# Altium footprint library SON127P600X500X80-9N-D.PcbLib: 1 footprints
Each footprint in its own frame and in the unit in brackets; x right, y up, seen from the top. Pads: shape width x height; smd on the part's side, far side on the other; paste and mask are expansions set on the pad; w line width, h text height; cw(c..) or ccw(c..) is an arc to the next point about the centre after c.
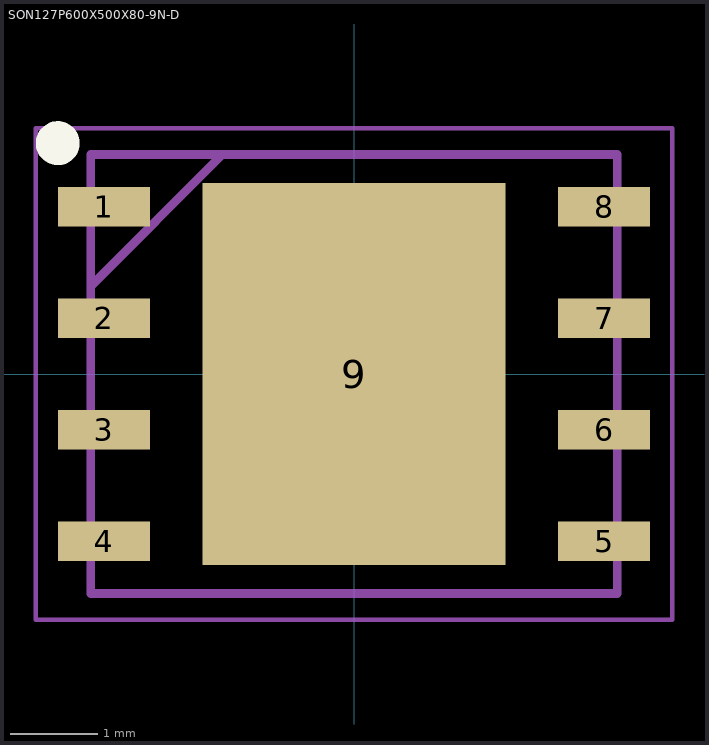
[diagram p0: the footprint, top view; thin cyan lines are the x and y axes]

## SON127P600X500X80-9N-D [mm]
pads (9):
  rect 1.05x0.45 smd: 1(-2.85,1.905) 2(-2.85,0.635) 3(-2.85,-0.635) 4(-2.85,-1.905) 5(2.85,-1.905) 6(2.85,-0.635) 7(2.85,0.635) 8(2.85,1.905)
  rect 3.45x4.35 smd: 9(0,0)
Top Overlay:
  circle w0.25: c-3.375,2.63 r0.125
Mechanical 15:
  lines w0.1: -3,1 -1.5,2.5 ; -3,-2.5 -3,2.5 3,2.5 3,-2.5 -3,-2.5
Mechanical 20:
  lines w0.05: -3.625,-2.8 -3.625,2.8 3.625,2.8 3.625,-2.8 -3.625,-2.8
3D body "W25Q128JVPIM.stp": height 0.8, standoff 0, extent -3.05,-2.5 3.05,2.5